# EAGLE library part SC18IS602B (library Parts for D-DAQ)
I2C-to-SPI Protocol Converter: Used for independant SPI bus for SD Card
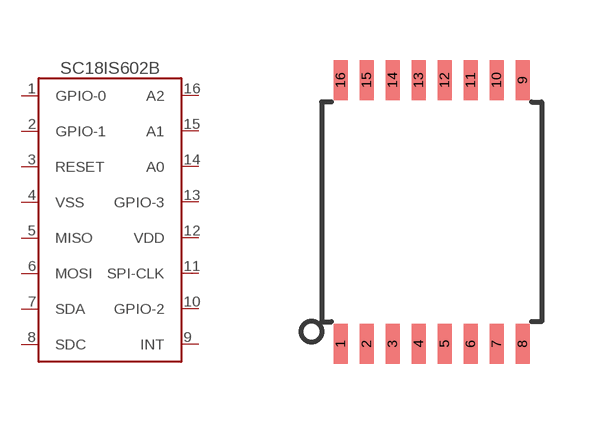
[diagram p7: symbol with the pads of TSSOP-16; footprint TSSOP-16]

Designator prefix U

## SC18IS602B  [TSSOP-16]
1  GPIO-0
2  GPIO-1
3  RESET  in
4  VSS  pwr
5  MISO  in
6  MOSI  out
7  SDA
8  SDC  in
9  INT  out
10  GPIO-2
11  SPI-CLK  out
12  VDD  pwr
13  GPIO-3
14  A0  in
15  A1  in
16  A2  in

## Footprint TSSOP-16 (pad centres in mm)
smd 0.35 x 1: 1 -2.275,-3.3; 2 -1.625,-3.3; 3 -0.975,-3.3; 4 -0.325,-3.3; 5 0.325,-3.3; 6 0.975,-3.3; 7 1.625,-3.3; 8 2.275,-3.3; 9 2.275,3.3; 10 1.625,3.3; 11 0.975,3.3; 12 0.325,3.3; 13 -0.325,3.3; 14 -0.975,3.3; 15 -1.625,3.3; 16 -2.275,3.3